# Altium footprint library Parts.PcbLib: 3 footprints
Each footprint in its own frame and in the unit in brackets; x right, y up, seen from the top. Pads: shape width x height; smd on the part's side, far side on the other; paste and mask are expansions set on the pad; w line width, h text height; cw(c..) or ccw(c..) is an arc to the next point about the centre after c.
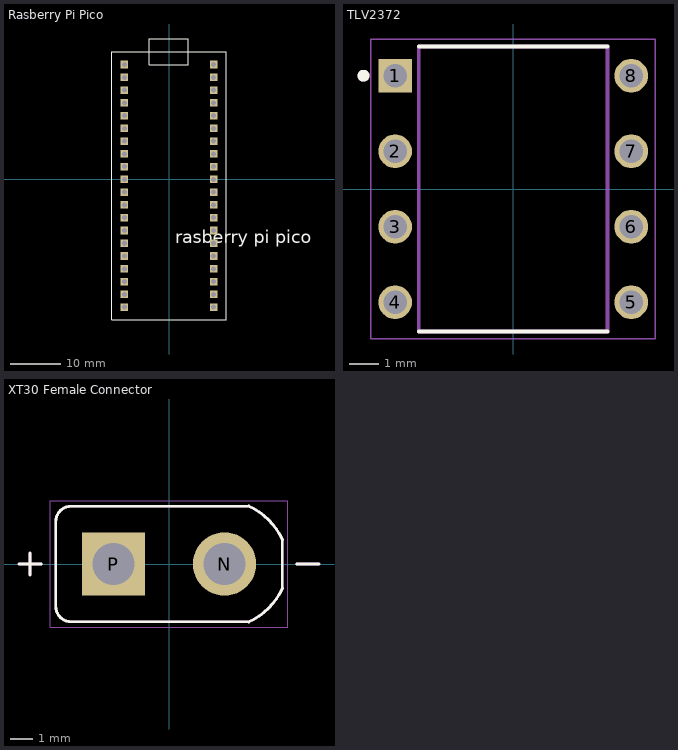
[diagram p0: the footprints below, top view; thin cyan lines are the x and y axes]

## Rasberry Pi Pico [mm]
pads (40):
  rect 1.508x1.508 / inner round 1.508 / far side rect 1.508x1.508 hole 1: 3V3(8.89,12.7) 3V3_EN(8.89,15.24) ADC_VREF(8.89,10.16) AGND(8.89,5.08) GND(8.89,17.78) GND2(8.89,-7.62) GND3(8.89,-20.32) GND4(-8.89,17.78) GND5(-8.89,5.08) GND6(-8.89,-7.62) GND7(-8.89,-20.32) GP0(-8.89,22.86) GP1(-8.89,20.32) GP2(-8.89,15.24) GP3(-8.89,12.7) GP4(-8.89,10.16) GP5(-8.89,7.62) GP6(-8.89,2.54) GP7(-8.89,0) GP8(-8.89,-2.54) GP9(-8.89,-5.08) GP10(-8.89,-10.16) GP11(-8.89,-12.7) GP12(-8.89,-15.24) GP13(-8.89,-17.78) GP14(-8.89,-22.86) GP15(-8.89,-25.4) GP16(8.89,-25.4) GP17(8.89,-22.86) GP18(8.89,-17.78) GP19(8.89,-15.24) GP20(8.89,-12.7) GP21(8.89,-10.16) GP22(8.89,-5.08) GP26_A0(8.89,0) GP27_A1(8.89,2.54) GP28_A2(8.89,7.62) RUN(8.89,-2.54) VBUS(8.89,22.86) VSYS(8.89,20.32)
Top Overlay:
  lines w0.152: -11.43,-27.94 -11.43,25.4 11.43,25.4 11.43,-27.94 -11.43,-27.94 ; -3.893,22.86 -3.893,27.94 3.81,27.94 3.81,22.86 -3.893,22.86
  text "rasberry pi pico" at 1.27,-12.7 h2.54
3D body "step_temp.STEP": height 3.73, standoff 0, extent -10.5,-25.5 10.5,26.8

## TLV2372 [mm] "Dual Op-Amp"
pads (8):
  rect 1.13x1.13 / inner round 1.13 / far side rect 1.13x1.13 hole 0.78 mask+0.102: 1(-3.97,3.81)
  round 1.13 hole 0.78 mask+0.102: 2(-3.97,1.27) 3(-3.97,-1.27) 4(-3.97,-3.81) 5(3.97,-3.81) 6(3.97,-1.27) 7(3.97,1.27) 8(3.97,3.81)
Top Overlay:
  circle w0.2: c-5.035,3.81 r0.1
  lines w0.127: -3.175,-4.795 3.175,-4.795 ; -3.175,4.795 3.175,4.795
Mechanical 13:
  circle w0.2: c-5.035,3.81 r0.1
  lines w0.127: -3.175,-4.795 -3.175,4.795 3.175,4.795 3.175,-4.795 -3.175,-4.795
Mechanical 15:
  lines w0.05: -4.785,-5.045 -4.785,5.045 4.785,5.045 4.785,-5.045 -4.785,-5.045
3D body "step_temp.STEP": height 5.08, standoff -3, extent -4.153,-4.795 4.153,4.795

## XT30 Female Connector [mm]
height 10.7
pads (2):
  round 2.85 hole 1.9 mask+0.102: N(2.5,0)
  rect 2.85x2.85 / inner round 2.85 / far side rect 2.85x2.85 hole 1.9 mask+0.102: P(-2.5,0)
Top Overlay:
  lines w0.127: -6.75,0 -5.75,0 ; -6.25,-0.5 -6.25,0.5 ; 3.586,-2.606 ccw(c2.366,0.134) 5.106,-1.086 ; 3.586,2.606 cw(c2.366,-0.134) 5.106,1.086 ; 3.6,-2.6 -4.4,-2.6 cw(c-4.4,-1.9) -5.1,-1.9 -5.1,1.9 cw(c-4.4,1.9) -4.4,2.6 3.6,2.6 ; 5.1,-1.1 5.1,1.1 ; 5.75,0 6.75,0
Mechanical 13:
  lines w0.127: -6.75,0 -5.75,0 ; -6.25,-0.5 -6.25,0.5 ; 3.586,-2.606 ccw(c2.366,0.134) 5.106,-1.086 ; 3.586,2.606 cw(c2.366,-0.134) 5.106,1.086 ; 3.6,-2.6 -4.4,-2.6 cw(c-4.4,-1.9) -5.1,-1.9 -5.1,1.9 cw(c-4.4,1.9) -4.4,2.6 3.6,2.6 ; 5.1,-1.1 5.1,1.1 ; 5.75,0 6.75,0
Mechanical 15:
  lines w0.05: -5.35,-2.85 -5.35,2.85 5.35,2.85 5.35,-2.85 -5.35,-2.85
3D body "step_temp.STEP": height 10.7, standoff -2, extent -5.1,-2.6 5.1,2.6